# EAGLE library part 3221-14-0300-00 (library ruark2)
Connector Header Surface Mount 14 position 0.050" (1.27mm)
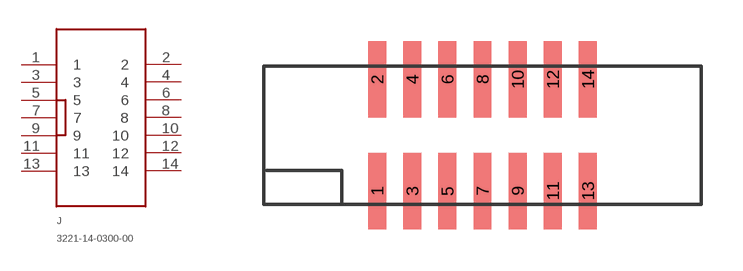
[diagram p96: symbol with the pads of 3221-14-0300-00; footprint 3221-14-0300-00]

Designator prefix J

## 3221-14-0300-00  [3221-14-0300-00]
1  1
2  2
3  3
4  4
5  5
6  6
7  7
8  8
9  9
10  10
11  11
12  12
13  13
14  14

## Footprint 3221-14-0300-00 (pad centres in mm)
smd 0.65 x 2.76: 1 -3.81,-2.02; 2 -3.81,2.02; 3 -2.54,-2.02; 4 -2.54,2.02; 5 -1.27,-2.02; 6 -1.27,2.02; 7 0,-2.02; 8 0,2.02; 9 1.27,-2.02; 10 1.27,2.02; 11 2.54,-2.02; 12 2.54,2.02; 13 3.81,-2.02; 14 3.81,2.02